# Altium footprint library netTie_pcblib.PcbLib: 1 footprints
Each footprint in its own frame and in the unit in brackets; x right, y up, seen from the top. Pads: shape width x height; smd on the part's side, far side on the other; paste and mask are expansions set on the pad; w line width, h text height; cw(c..) or ccw(c..) is an arc to the next point about the centre after c.
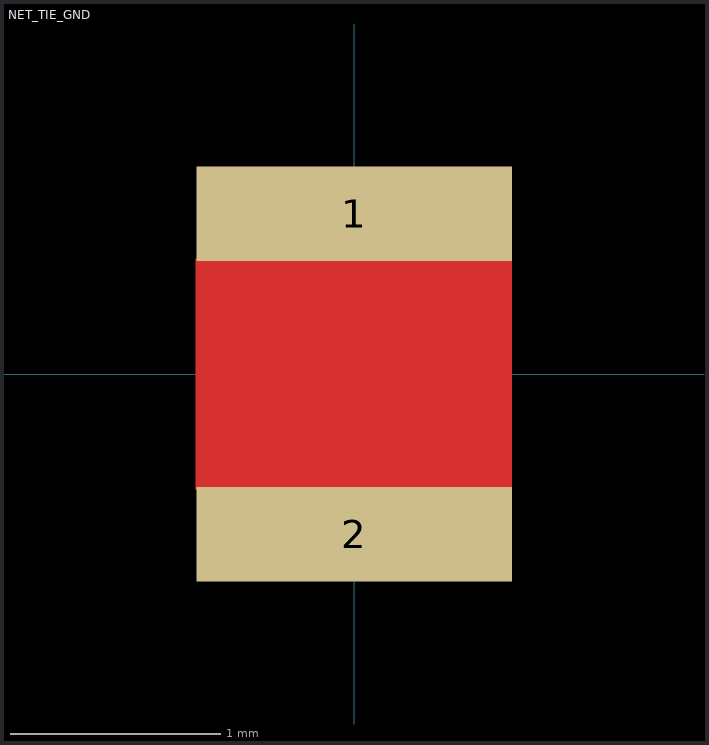
[diagram p0: the footprint, top view; thin cyan lines are the x and y axes]

## NET_TIE_GND [mm]
pads (2):
  rect 1.5x0.45 smd mask+0.05: 1(0,0.762) 2(0,-0.762)
Top Layer:
  region: -0.753,0.548 -0.753,-0.55 0.747,-0.55 0.747,0.548